# Altium footprint library Resistors.PcbLib: 5 footprints
Each footprint in its own frame and in the unit in brackets; x right, y up, seen from the top. Pads: shape width x height; smd on the part's side, far side on the other; paste and mask are expansions set on the pad; w line width, h text height; cw(c..) or ccw(c..) is an arc to the next point about the centre after c.
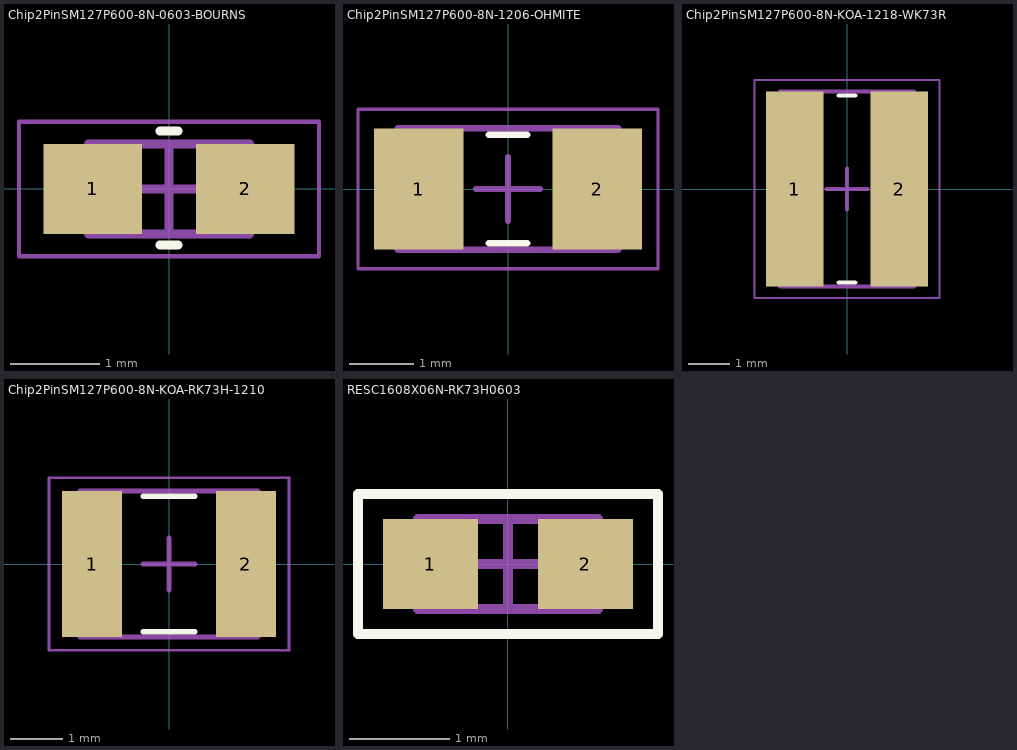
[diagram p0: the footprints below, top view; thin cyan lines are the x and y axes]

## Chip2PinSM127P600-8N-0603-BOURNS [mm] "CFN0603-JZ-R010ELF"
height 0.8
pads (2):
  rect 1.1x1 smd: 1(-0.85,0) 2(0.85,0)
Top Overlay:
  lines w0.1: -0.1,-0.625 0.1,-0.625 ; -0.1,0.65 0.1,0.65
Top Courtyard:
  lines w0.05: -1.675,-0.75 1.675,-0.75 1.675,0.75 -1.675,0.75 -1.675,-0.75
  lines w0.1: -0.5,0 0.5,0 ; 0,-0.5 0,0.5
Top Assembly (Mech12):
  lines w0.1: -0.9,-0.5 0.9,-0.5 0.9,0.5 -0.9,0.5 -0.9,-0.5
3D body "Chip2PinSM127P600-8N-0603-BOURNS.step": height 0.8, standoff 0, extent -0.9,-0.5 0.9,0.5

## Chip2PinSM127P600-8N-1206-OHMITE [mm]
height 0.69
pads (2):
  rect 1.4x1.9 smd: 1(-1.4,0) 2(1.4,0)
Top Overlay:
  lines w0.1: -0.3,-0.85 0.3,-0.85 ; -0.3,0.85 0.3,0.85
Top Courtyard:
  lines w0.05: -2.35,-1.25 2.35,-1.25 2.35,1.25 -2.35,1.25 -2.35,-1.25
  lines w0.1: -0.5,0 0.5,0 ; 0,-0.5 0,0.5
Top Assembly (Mech12):
  lines w0.1: -1.725,-0.95 1.725,-0.95 1.725,0.95 -1.725,0.95 -1.725,-0.95
3D body "Chip2PinSM127P600-8N-1206-OHMITE.step": height 0.68, standoff 0, extent -1.725,-0.95 1.725,0.95

## Chip2PinSM127P600-8N-KOA-1218-WK73R [mm]
height 0.7
pads (2):
  rect 1.4x4.75 smd: 1(-1.275,0) 2(1.275,0)
Top Overlay:
  lines w0.1: -0.2,-2.275 0.2,-2.275 ; -0.2,2.275 0.2,2.275
Top Courtyard:
  lines w0.05: -2.25,-2.65 -2.25,2.65 2.25,2.65 2.25,-2.65 -2.25,-2.65
  lines w0.1: -0.5,0 0.5,0 ; 0,-0.5 0,0.5
Top Assembly (Mech12):
  lines w0.1: -1.625,-2.375 -1.625,2.375 1.625,2.375 1.625,-2.375 -1.625,-2.375
3D body "Chip2PinSM127P600-8N-KOA-1218-WK73R.step": height 0.7, standoff 0, extent -1.625,-2.375 1.625,2.375

## Chip2PinSM127P600-8N-KOA-RK73H-1210 [mm]
height 0.7
pads (2):
  rect 1.15x2.8 smd: 1(-1.475,0) 2(1.475,0)
Top Overlay:
  lines w0.1: -0.5,-1.3 0.5,-1.3 ; -0.5,1.3 0.5,1.3
Top Courtyard:
  lines w0.05: -2.3,-1.65 -2.3,1.65 2.3,1.65 2.3,-1.65 -2.3,-1.65
  lines w0.1: -0.5,0 0.5,0 ; 0,-0.5 0,0.5
Top Assembly (Mech12):
  lines w0.1: -1.7,-1.4 -1.7,1.4 1.7,1.4 1.7,-1.4 -1.7,-1.4
3D body "Chip2PinSM127P600-8N-KOA-RK73H-1210.step": height 0.7, standoff 0, extent -1.7,-1.4 1.7,1.4

## RESC1608X06N-RK73H0603 [mm] "Chip Resistor, 2-Leads, Body 1.60x0.80mm, IPC Medium Density"
height 0.55
pads (2):
  rect 0.95x0.9 smd: 1(-0.775,0) 2(0.775,0)
Top Overlay:
  lines w0.1: -1.5,-0.7 1.5,-0.7 1.5,0.7 -1.5,0.7 -1.5,-0.7
Top Courtyard:
  lines w0.05: -1.5,-0.7 -1.5,0.7 1.5,0.7 1.5,-0.7 -1.5,-0.7
  lines w0.1: -0.45,0 0.45,0 ; 0,-0.45 0,0.45
Top Assembly (Mech12):
  lines w0.1: -0.9,-0.45 -0.9,0.45 0.9,0.45 0.9,-0.45 -0.9,-0.45
3D body "RESC1608X06N-RK73H0603.step": height 0.55, standoff 0, extent -0.9,-0.45 0.9,0.45